# Altium schematic symbol library IC_LT6551.SchLib: 1 symbol
Pins are listed as number, name and electrical type; pins without a type are passive.

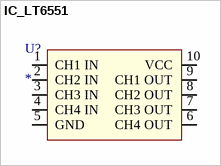
[diagram p0: symbol IC_LT6551]

## IC_LT6551
designator U?
pins: 1 CH1 IN, 2 CH2 IN, 3 CH3 IN, 4 CH4 IN, 5 GND, 6 CH4 OUT, 7 CH3 OUT, 8 CH2 OUT, 9 CH1 OUT, 10 VCC